# EAGLE library part MAX1249 (library custom)
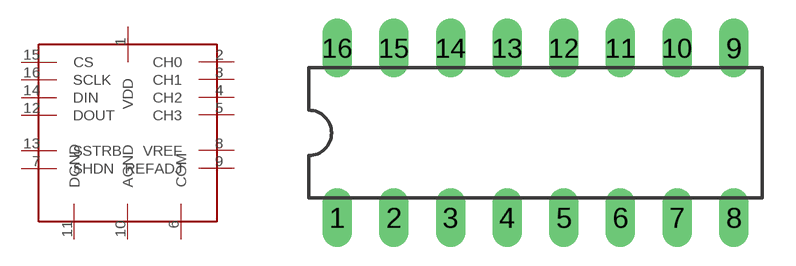
[diagram p5: symbol with the pads of DIL16; footprint DIL16]

Designator prefix -

## MAX1249  [DIL16]
1  VDD  pwr
2  CH0  in
3  CH1  in
4  CH2  in
5  CH3  in
6  COM
7  SHDN
8  VREF
9  REFADJ
10  AGND  pwr
11  DGND  pwr
12  DOUT
13  SSTRB
14  DIN
15  CS
16  SCLK

## Footprint DIL16 (pad centres in mm)
drill 0.813 long: 1 -8.89,-3.81; 2 -6.35,-3.81; 3 -3.81,-3.81; 4 -1.27,-3.81; 5 1.27,-3.81; 6 3.81,-3.81; 7 6.35,-3.81; 8 8.89,-3.81; 9 8.89,3.81; 10 6.35,3.81; 11 3.81,3.81; 12 1.27,3.81; 13 -1.27,3.81; 14 -3.81,3.81; 15 -6.35,3.81; 16 -8.89,3.81